# EAGLE library part TERM-STRIP-6PIN (library zl2avf)
Terminal Strip: 6-pin
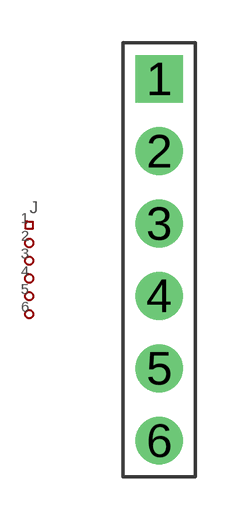
[diagram p2: symbol with the pads of TERM-STRIP-6PIN; footprint TERM-STRIP-6PIN]

Designator prefix J

## TERM-STRIP-6PIN  [TERM-STRIP-6PIN]
1  1
2  2
3  3
4  4
5  5
6  6

## Footprint TERM-STRIP-6PIN (pad centres in mm)
drill 0.9 pad 1.676 square: 1 0,7.62
drill 0.9 pad 1.676: 2 0,5.08; 3 0,2.54; 4 0,0; 5 0,-2.54; 6 0,-5.08